# Altium schematic symbol library Capacitors Electrolytic.SchLib: 3 symbols
Pins are listed as number, name and electrical type; pins without a type are passive.

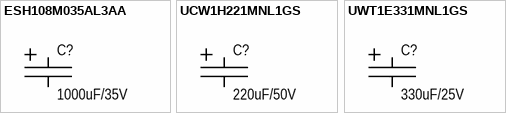
[diagram p0: symbols ESH108M035AL3AA to UWT1E331MNL1GS]

## ESH108M035AL3AA
designator C?, comment 1000uF/35V
CAP E 1000uF 35V TH D13H20; Manufacturer: KEMET; Part name: ESH108M035AL3AA; Group: Discrete; Lifetime/Temp: 2000 Hrs/105°C; Tolerance: ±20%; Type: Electrolytic; ESR: mOhm; Component: Capacitor Aluminium; Voltage: 35V; Package: CAPE-TH-D13H22; Capacitance: 1000uF; Operating temperature: -55°C +105°C; Mounting type: Surface mount; Height: 22.00mm; Dimension: 13.00mm x 13.00mm
footprint CAPE-TH-D13H20-RA (Footprint not found)
footprint CAPE-TH-D13H20 (Footprint not found)
pins: N, P

## UCW1H221MNL1GS
designator C?, comment 220uF/50V
CAP E 220uF 50V SM D10H10; Manufacturer: Nichicon; Part name: UCW1H221MNL1GS; Group: Discrete; Lifetime/Temp: 7000 Hrs/105°C; Tolerance: ±20%; Type: Electrolytic; Component: Capacitor Aluminium; Voltage: 50V; Package: CAPA-D10H10; Capacitance: 220uF; Operating temperature: -55°C +105°C; Mounting type: Surface mount; Height: 10.00mm; Dimension: 10.30mm x 10.30mm
footprint CAP_E_SM_D10H10 (Footprint not found)
pins: N, P

## UWT1E331MNL1GS
designator C?, comment 330uF/25V
CAP E 330uF 25V SM D8H10; Manufacturer: Nichicon; Part name: UWT1E331MNL1GS; Group: Discrete; Lifetime/Temp: 1000 Hrs/105°C; Tolerance: ±20%; Type: Electrolytic; Component: Capacitor Aluminium; Voltage: 25V; Package: CAPA-D6H10; Capacitance: 330uF; Operating temperature: -55°C +105°C; Mounting type: Surface mount; Height: 10.00mm; Dimension: 8.30mm x 8.30mm
footprint CAP_E_SM_D8H10 (Footprint not found)
pins: N, P